# EAGLE library part 8130 (library dec-con)
10 bit comparator
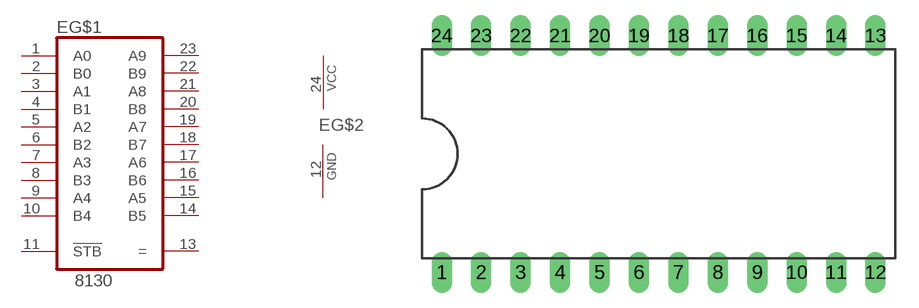
[diagram p40: symbol with the pads of DIL24; footprint DIL24]

Designator prefix E; gates G$1=8130 G$2=PWRN

## 8130  [DIL24]
1  G$1:A0  in
2  G$1:B0  in
3  G$1:A1  in
4  G$1:B1  in
5  G$1:A2  in
6  G$1:B2  in
7  G$1:A3  in
8  G$1:B3  in
9  G$1:A4  in
10  G$1:B4  in
11  G$1:!STB  in
12  G$2:GND  pwr
13  G$1:=  out
14  G$1:B5  in
15  G$1:A5  in
16  G$1:B6  in
17  G$1:A6  in
18  G$1:B7  in
19  G$1:A7  in
20  G$1:B8  in
21  G$1:A8  in
22  G$1:B9  in
23  G$1:A9  in
24  G$2:VCC  pwr

## Footprint DIL24 (pad centres in mm)
24 Pin Wide DIP
drill 0.813 long: 1 -12.7,-7.62; 2 -10.16,-7.62; 3 -7.62,-7.62; 4 -5.08,-7.62; 5 -2.54,-7.62; 6 0,-7.62; 7 2.54,-7.62; 8 5.08,-7.62; 9 7.62,-7.62; 10 10.16,-7.62; 11 12.7,-7.62; 12 15.24,-7.62; 13 15.24,7.62; 14 12.7,7.62; 15 10.16,7.62; 16 7.62,7.62; 17 5.08,7.62; 18 2.54,7.62; 19 0,7.62; 20 -2.54,7.62; 21 -5.08,7.62; 22 -7.62,7.62; 23 -10.16,7.62; 24 -12.7,7.62